# Altium footprint library THU VIEN 3.PcbLib: 22 footprints (part 2 of 2)
Each footprint in its own frame and in the unit in brackets; x right, y up, seen from the top. Pads: shape width x height; smd on the part's side, far side on the other; paste and mask are expansions set on the pad; w line width, h text height; cw(c..) or ccw(c..) is an arc to the next point about the centre after c.
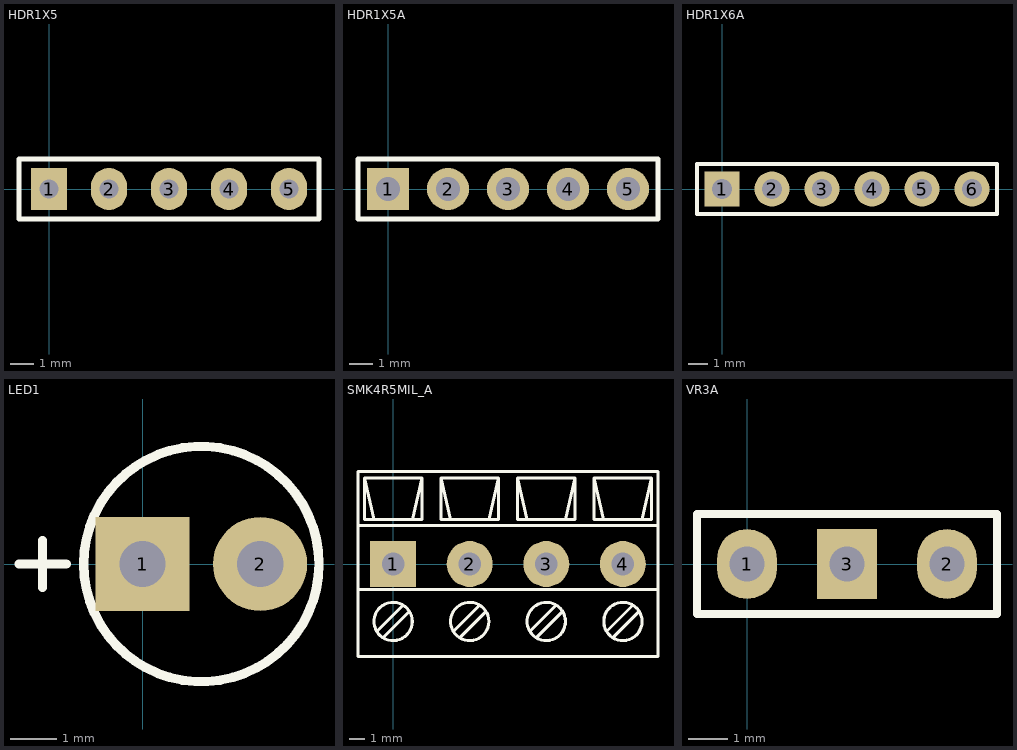
[diagram p1: the footprints below, top view; thin cyan lines are the x and y axes]

## HDR1X5 [mil] "Connector; Header; 5 Position"
pads (5):
  rect 60x70 hole 31.5: 1(0,0)
  oval 60x70 hole 31.5: 2(100,0) 3(200,0) 4(300,0) 5(400,0)
Top Overlay:
  lines w7.87: -50,-50 -50,50 450,50 450,-50 -50,-50

## HDR1X5A [mil]
pads (5):
  rect 70x70 hole 39.37: 1(0,0)
  round 70 hole 39.37: 2(100,0) 3(200,0) 4(300,0) 5(400,0)
Top Overlay:
  lines w8: -50,-50 -50,50 450,50 450,-50 -50,-50

## HDR1X6A [mil]
pads (6):
  rect 70x70 hole 39.37: 1(0,0)
  round 70 hole 39.37: 2(100,0) 3(200,0) 4(300,0) 5(400,0) 6(500,0)
Top Overlay:
  lines w8: -50,-50 -50,50 550,50 550,-50 -50,-50

## LED1 [mil]
pads (2):
  rect 80x80 hole 39.37: 1(0,0)
  round 80 hole 39.37: 2(100,0)
Top Overlay:
  circle w8: c50,0 r100
  lines w8: -105,0 -65,0 ; -85,-20 -85,20

## SMK4R5MIL_A [mil]
pads (4):
  rect 120x120 hole 59.06: 1(0,0)
  round 120 hole 59.06: 2(200,0) 3(400,0) 4(600,0)
Top Overlay:
  circle w8: c0,-150 r50
  circle w8: c200,-150 r50
  circle w8: c400,-150 r50
  circle w8: c600,-150 r50
  lines w8: -91.67,-66.67 691.67,-66.67 ; -91.67,100 691.67,100 ; -50,116.67 -75,225 ; -41.67,-175 25,-108.33 ; -25,-191.67 41.67,-125 ; 50,116.67 75,225 ; 150,116.67 125,225 ; 158.33,-175 225,-108.33 ; 175,-191.67 241.67,-125 ; 250,116.67 275,225 ; 350,116.67 325,225 ; 358.33,-175 425,-108.33 ; 375,-191.67 441.67,-125 ; 450,116.67 475,225 ; 550,116.67 525,225 ; 558.33,-175 625,-108.33 ; 575,-191.67 641.67,-125 ; 650,116.67 675,225 ; -75,225 -75,116.67 75,116.67 75,225 ; -75,225 75,225 ; 125,225 125,116.67 275,116.67 275,225 ; 125,225 275,225 ; 325,225 325,116.67 475,116.67 475,225 ; 325,225 475,225 ; 525,225 525,116.67 675,116.67 675,225 ; 525,225 675,225 ; -91.67,-241.67 -91.67,241.67 691.67,241.67 691.67,-241.67 -91.67,-241.67

## VR3A [mil]
pads (3):
  oval 60x70 hole 35.43: 1(0,0) 2(200,0)
  rect 60x70 hole 35.43: 3(100,0)
Top Overlay:
  lines w8: -50,-50 -50,50 250,50 250,-50 -50,-50